# EAGLE library part AKI-RJ45 (library myparts)
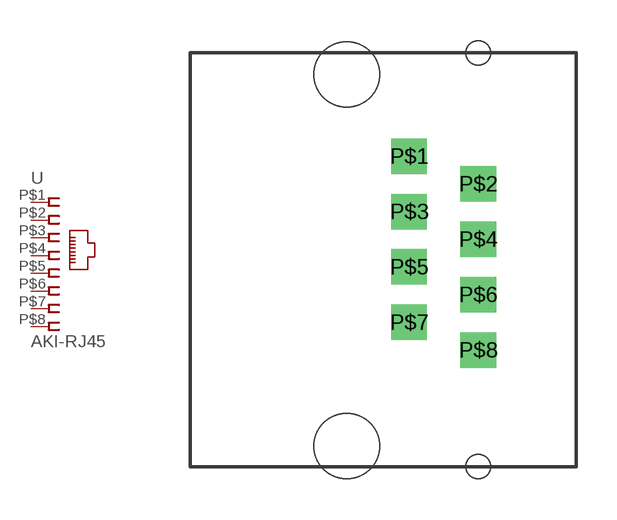
[diagram p5: symbol with the pads of C-00159; footprint C-00159]

Designator prefix -

## AKI-RJ45  [C-00159]
P$1  1  pas
P$2  2  pas
P$3  3  pas
P$4  4  pas
P$5  5  pas
P$6  6  pas
P$7  7  pas
P$8  8  pas

## Footprint C-00159 (pad centres in mm)
drill 0.8 square: P$1 0,0.8; P$2 2.54,-0.22; P$3 0,-1.24; P$4 2.54,-2.26; P$5 0,-3.28; P$6 2.54,-4.3; P$7 0,-5.32; P$8 2.54,-6.34
hole 2.4 at -2.3,-9.885
hole 2.4 at -2.3,3.805
hole 0.9 at 2.54,4.605
hole 0.9 at 2.54,-10.635